# EAGLE library part NCP1014AP065G (library 3D_MIG_Controller)
Flyback PWM Controller, PDIP-7, On Semi
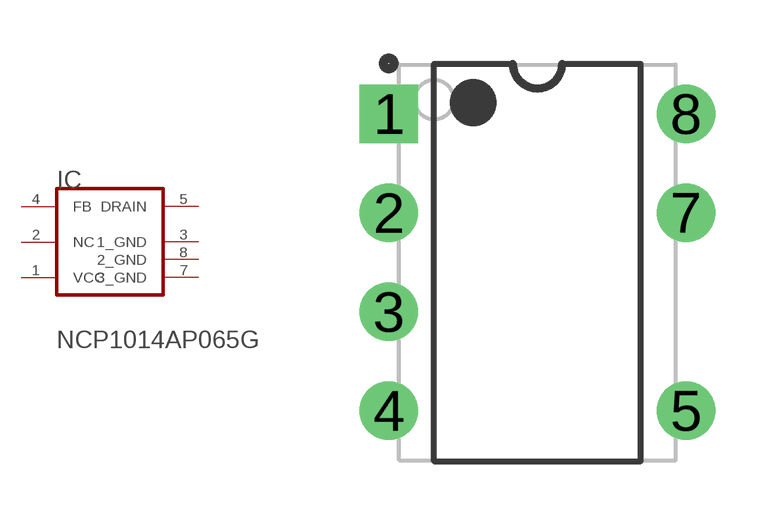
[diagram p58: symbol with the pads of PDIP-7; footprint PDIP-7]

Designator prefix IC

## NCP1014AP065G  [PDIP-7]
1  VCC  pwr
2  NC  pas
3  1_GND  pwr
4  FB  in
5  DRAIN  pwr
7  3_GND  pwr
8  2_GND  pwr

## Footprint PDIP-7 (pad centres in mm)
PDIP-7
drill 0.9 pad 1.5 square: 1 -3.81,3.81
drill 0.9 pad 1.5: 2 -3.81,1.27; 3 -3.81,-1.27; 4 -3.81,-3.81; 5 3.81,-3.81; 7 3.81,1.27; 8 3.81,3.81